# EAGLE library part MC10119 (library ecl)
ECL DEVICE
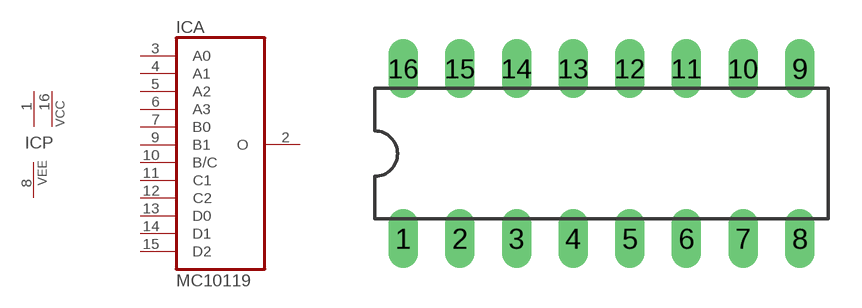
[diagram p21: symbol with the pads of DIL16; footprint DIL16]

Designator prefix IC; gates A=MC10119 P=2VCC1VEE

## MC10119  [DIL16]
1  P:VCC  pwr
2  A:O  out
3  A:A0  in
4  A:A1  in
5  A:A2  in
6  A:A3  in
7  A:B0  in
8  P:VEE  pwr
9  A:B1  in
10  A:B/C  in
11  A:C1  in
12  A:C2  in
13  A:D0  in
14  A:D1  in
15  A:D2  in
16  P:VCC  pwr

## Footprint DIL16 (pad centres in mm)
Dual In Line Package
drill 0.813 long: 1 -8.89,-3.81; 2 -6.35,-3.81; 3 -3.81,-3.81; 4 -1.27,-3.81; 5 1.27,-3.81; 6 3.81,-3.81; 7 6.35,-3.81; 8 8.89,-3.81; 9 8.89,3.81; 10 6.35,3.81; 11 3.81,3.81; 12 1.27,3.81; 13 -1.27,3.81; 14 -3.81,3.81; 15 -6.35,3.81; 16 -8.89,3.81